# Altium integrated library Common Devices.IntLib: 19 symbols
Pins are listed as number, name and electrical type; pins without a type are passive.

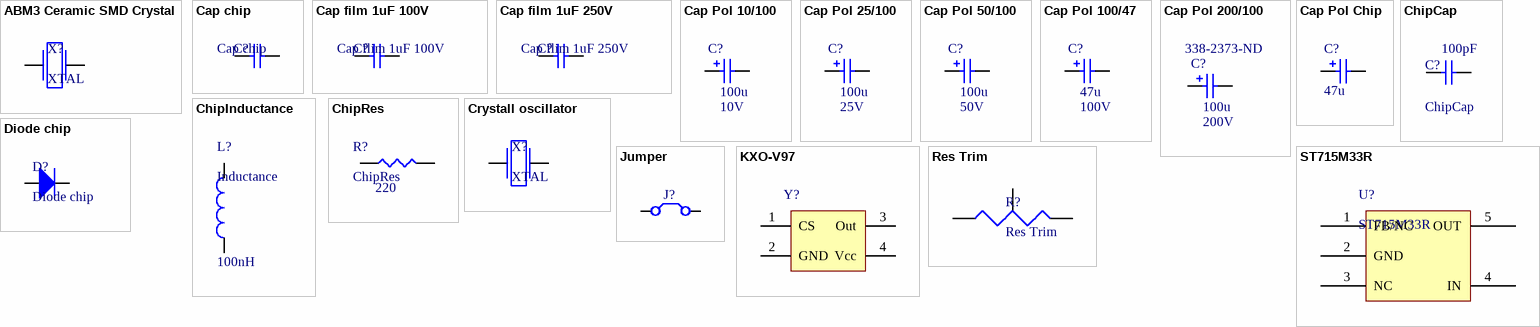
[diagram p0: symbols ABM3 Ceramic SMD Crystal to ST715M33R]

## ABM3 Ceramic SMD Crystal
designator X?, comment XTAL
Quartz crystall oscillator
footprint ABM3 Ceramic Crystal
pins: 1, 2

## Cap chip
designator C?
Chip Capacitor; Value: 0.01uF; Published: 8-Jun-2000; LatestRevisionDate: 17-Jul-2002; LatestRevisionNote: Re-released for DXP Platform.; PackageReference: RAD-0.3; Publisher: Altium Limited; Supplier 1: Digi-Key; Supplier Part Number 1: 399-1249-1-ND
footprint CAPC3216 (Chip Capacitor, Body 3.2x1.6mm, IPC Medium Density)
pins: 1, 2

## Cap film 1uF 100V
designator C?, comment Cap flim 1uF 100V
Metallized Polyester Film Capacitor 1uF 100V; Value: 0.01uF; Published: 8-Jun-2000; LatestRevisionDate: 17-Jul-2002; LatestRevisionNote: Re-released for DXP Platform.; PackageReference: RAD-0.3; Publisher: Altium Limited
footprint CAPPT15-18x7.5mm (Film capasitor)
pins: 1, 2

## Cap film 1uF 250V
designator C?, comment Cap flim 1uF 250V
Metallized Polyester Film Capacitor 1uF 100V; Value: 0.01uF; Published: 8-Jun-2000; LatestRevisionDate: 17-Jul-2002; LatestRevisionNote: Re-released for DXP Platform.; PackageReference: RAD-0.3; Publisher: Altium Limited
footprint CAPPT20-23x7mm (Film capasitor)
pins: 1, 2

## Cap Pol 10/100
designator C?  value 100u  Voltage: 10V  (hidden comment: Cap Pol 10/100)
Polarized Capacitor (Radial); Supplier 1: Digi-Key; Supplier Part Number 1: 493-6074-ND
footprint CAPPR2-5x11.5 _1 (Capacitor, Electrolytic, Radial; Body 5x 11.5 mm (Dia.xH typ); Pin Spacing 2 mm (typ))
pins: 1, 2
1 alternate drawing of the same symbol

## Cap Pol 25/100
designator C?  value 100u  Voltage: 25V  (hidden comment: Cap Pol 25/100)
Polarized Capacitor (Radial); Published: 8-Jun-2000; LatestRevisionDate: 17-Jul-2002; LatestRevisionNote: Re-released for DXP Platform.; PackageReference: RB7.6-15; Publisher: Altium Limited; Supplier 1: Digi-Key; Supplier Part Number 1: UVP1E101MPD-ND
footprint CAPPR2.5-6.3x11.5_1 (Capacitor, Electrolytic, Radial; Body 6.3 x 11.5 mm (Dia.xH typ); Pin Spacing 2.5 mm (typ))
pins: 1, 2
1 alternate drawing of the same symbol

## Cap Pol 50/100
designator C?  value 100u  Voltage: 50V  (hidden comment: Cap Pol 50/100)
Polarized Capacitor (Radial); Supplier 1: Digi-Key; Supplier Part Number 1: P1284-ND
footprint CAPPR3.5-8x11.5_1 (Capacitor, Electrolytic, Radial; Body 8 x 11.5 mm (Dia.xH typ); Pin Spacing 3.5 mm (typ))
pins: 1, 2
1 alternate drawing of the same symbol

## Cap Pol 100/47
designator C?  value 47u  Voltage: 100V  (hidden comment: Cap Pol 100/47)
Polarized Capacitor (Radial); Supplier 1: Digi-Key; Supplier Part Number 1: P1284-ND
footprint CAPPR5-10x17_1 (Capacitor, Electrolytic, Radial; Body 10 x 17 mm (Dia.xH typ); Pin Spacing 5 mm (typ))
pins: 1, 2
1 alternate drawing of the same symbol

## Cap Pol 200/100
designator C?  value 100u  Voltage: 200V  Supplier Part Number 1: 338-2373-ND  (hidden comment: Cap Pol 200/100)
Polarized Capacitor (Radial); Supplier 1: Digi-Key
footprint CAPPR7.5-16x25_1 (Capacitor, Electrolytic, Radial; Body 16 x 25 mm (Dia.xH typ); Pin Spacing 7.5 mm (typ))
pins: 1, 2
1 alternate drawing of the same symbol

## Cap Pol Chip
designator C?, comment value 47u  (hidden comment: Cap Pol SMD)
Polarized Capacitor (Radial); Supplier 1: Digi-Key; Supplier Part Number 1: 399-4029-1-ND
footprint CAPC7343 (Chip Capacitor, Body 7.3x4.3mm, IPC Medium Density)
pins: 1, 2
1 alternate drawing of the same symbol

## ChipCap
designator C?  value 100pF
Capacitor; Published: 8-Jun-2000; LatestRevisionDate: 17-Jul-2002; LatestRevisionNote: Re-released for DXP Platform.; PackageReference: RAD-0.3; Publisher: Altium Limited
footprint CAP0201 (Chip Capacitor, 2-Leads, Body 0.65x0.30mm, IPC Medium Density)
footprint CAP0402
footprint CAP0603
footprint CAP0805
footprint CAP1206
footprint CAP1210
footprint CAP1812
footprint CAP1825
footprint CAP1825
footprint CAP2220
pins: 1, 2

## ChipInductance
designator L?, comment Inductance  value 100nH
footprint Inductor
footprint CM10
footprint CM16
footprint CM20
footprint CM25
footprint CM32
footprint CM45
footprint IHPL-6767 (Chip Inductor, 2-Leads, Body 17.15x17.15mm)
footprint IHPL-3232 (Low Profile, High Current IHPL Inductor)
pins: 1, 2

## ChipRes
designator R?  value 220
Chip resistor
footprint RES0805
footprint RES0603
pins: 1, 2

## Crystall oscillator
designator X?, comment XTAL
Quartz crystall oscillator
footprint BCY-W2/E4.7 (Quartz Crystal, Thru-Hole; 2 Leads; Body 11.35 x 4.65 x 13.46 mm (LxWxH max))
pins: 1, 2

## Diode chip
designator D?
Voltage: 1000V; Current (continuous): 3A; Current (peak, sine 8,3 ms): 150V; Junction capacitance: 50pF
footprint SMB1 (SMBJ)
pins: 1 A, 2 K

## Jumper
designator J?  (value not drawn)
footprint J0805
pins: 0, 1

## KXO-V97
designator Y?  (value not drawn)
Crystal oscillator 16MHz
footprint QSMD (Crystal oscillator SMD KXO-V97 4,2mm*5.28mm)
pins: 1 CS, 2 GND, 3 Out, 4 Vcc

## Res Trim
designator R?
Square trimming potenciometer
footprint 3314J-1 (Square trimming potentiometer)
pins: 1, 2, 3

## ST715M33R
designator U?
High input voltage - 85 mA LDO linear regulator
footprint SOT23-5 (SOT23, 5-Leads, Body 2.90x2.45mm, Pitch 0.95mm, IPC Medium Density)
pins: 1 FB/NC, 2 GND, 3 NC, 4 IN, 5 OUT